# Altium integrated library MAX-M10M-00B.IntLib: 1 symbol
Pins are listed as number, name and electrical type; pins without a type are passive.

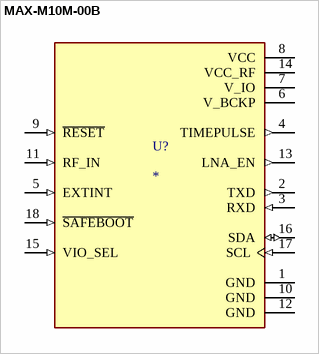
[diagram p0: symbol MAX-M10M-00B]

## MAX-M10M-00B
designator U?
MAX-M10 RF Receiver BeiDou, Galileo, GLONASS, GNSS, GPS -164dBm Not Included; MF: u-blox; MP: MAX-M10M-00B; SnapEDA_Link: https://www.snapeda.com/parts/MAX-M10M-00B/u-blox/view-part/?ref=snap; Package: None; Value: *; Check_prices: https://www.snapeda.com/parts/MAX-M10M-00B/u-blox/view-part/?ref=eda
footprint XCVR_MAX-M10M-00B
pins: 1 GND (power), 2 TXD (out), 3 RXD (in), 4 TIMEPULSE (out), 5 EXTINT (in), 6 V_BCKP (power), 7 V_IO (power), 8 VCC (power), 9 ~{RESET} (in), 10 GND (power), 11 RF_IN (in), 12 GND (power), 13 LNA_EN (out), 14 VCC_RF (power), 15 VIO_SEL (in), 16 SDA (io), 17 SCL (in), 18 ~{SAFEBOOT} (in)